# EAGLE library part STM32G0C1VET6 (library STM32G0C1VET6)
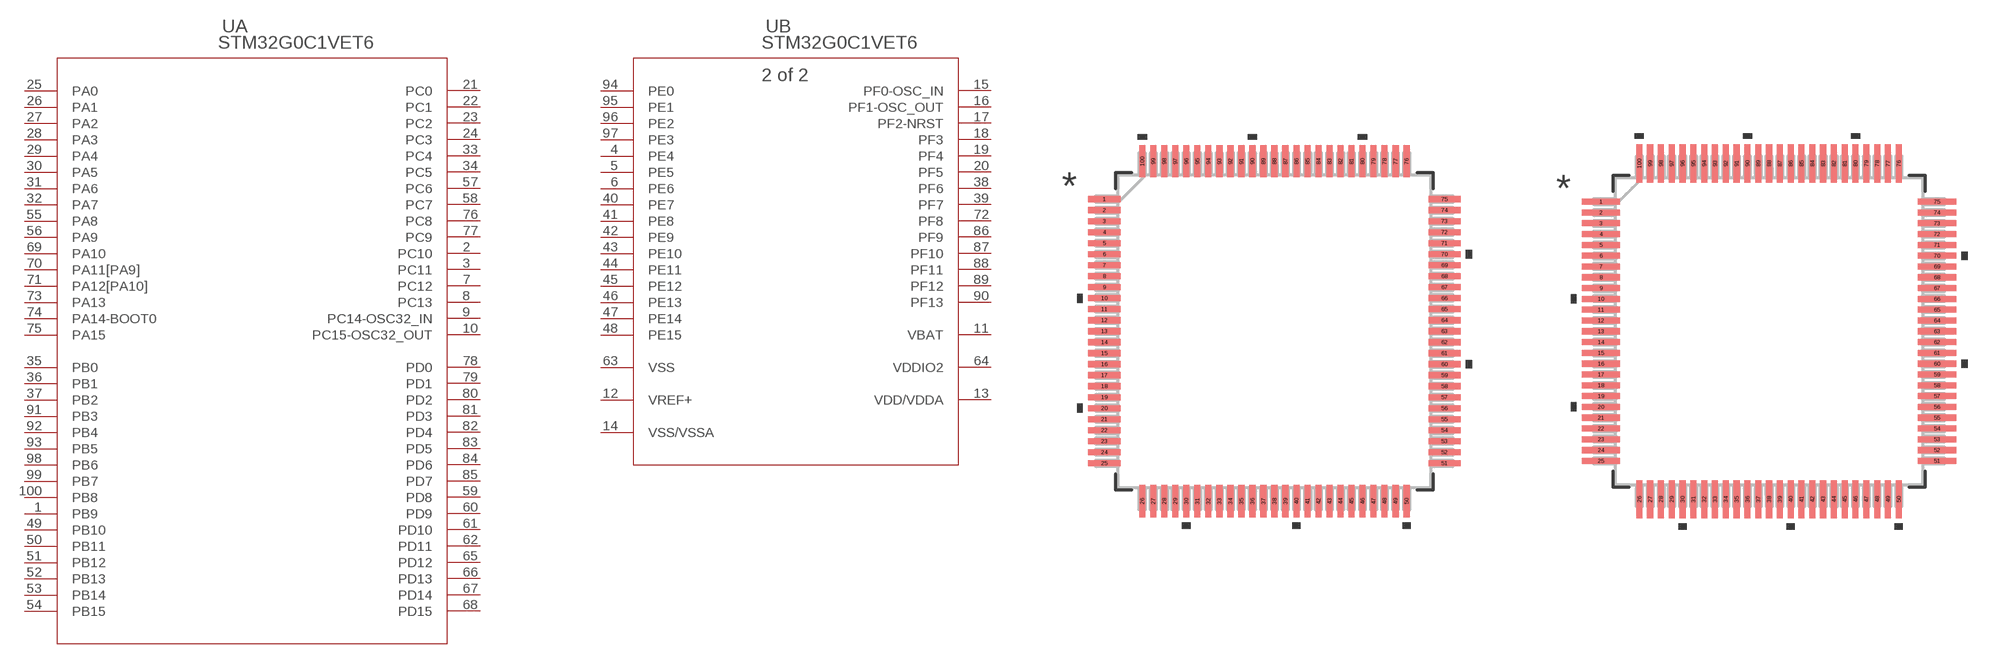
[diagram p0: symbol with the pads of LQFP-100_STM; footprints LQFP-100_STM, LQFP-100_STM-M]

Designator prefix U; gates A=STM32G0C1VET6 B=STM32G0C1VET6_1

## STM32G0C1VET6 (COPYRIGHT: Copyright (C) 2023 Ultra Librarian. All rights reserved.; MANUFACTURER_PART_NUMBER: STM32G0C1VET6; MFR_NAME: STMicroelectronics)  [LQFP-100_STM]
1  A:PB9
2  A:PC10
3  A:PC11
4  B:PE4
5  B:PE5
6  B:PE6
7  A:PC12
8  A:PC13
9  A:PC14-OSC32_IN
10  A:PC15-OSC32_OUT
11  B:VBAT  pwr
12  B:VREF+  pwr
13  B:VDD/VDDA  pwr
14  B:VSS/VSSA  pwr
15  B:PF0-OSC_IN
16  B:PF1-OSC_OUT
17  B:PF2-NRST
18  B:PF3
19  B:PF4
20  B:PF5
21  A:PC0
22  A:PC1
23  A:PC2
24  A:PC3
25  A:PA0
26  A:PA1
27  A:PA2
28  A:PA3
29  A:PA4
30  A:PA5
31  A:PA6
32  A:PA7
33  A:PC4
34  A:PC5
35  A:PB0
36  A:PB1
37  A:PB2
38  B:PF6
39  B:PF7
40  B:PE7
41  B:PE8
42  B:PE9
43  B:PE10
44  B:PE11
45  B:PE12
46  B:PE13
47  B:PE14
48  B:PE15
49  A:PB10
50  A:PB11
51  A:PB12
52  A:PB13
53  A:PB14
54  A:PB15
55  A:PA8
56  A:PA9
57  A:PC6
58  A:PC7
59  A:PD8
60  A:PD9
61  A:PD10
62  A:PD11
63  B:VSS  pwr
64  B:VDDIO2  pwr
65  A:PD12
66  A:PD13
67  A:PD14
68  A:PD15
69  A:PA10
70  A:PA11[PA9]
71  A:PA12[PA10]
72  B:PF8
73  A:PA13
74  A:PA14-BOOT0
75  A:PA15
76  A:PC8
77  A:PC9
78  A:PD0
79  A:PD1
80  A:PD2
81  A:PD3
82  A:PD4
83  A:PD5
84  A:PD6
85  A:PD7
86  B:PF9
87  B:PF10
88  B:PF11
89  B:PF12
90  B:PF13
91  A:PB3
92  A:PB4
93  A:PB5
94  B:PE0
95  B:PE1
96  B:PE2
97  B:PE3
98  A:PB6
99  A:PB7
100  A:PB8

## STM32G0C1VET6LQFP-100_STM-M (COPYRIGHT: Copyright (C) 2023 Ultra Librarian. All rights reserved.; MANUFACTURER_PART_NUMBER: STM32G0C1VET6; MFR_NAME: STMicroelectronics)  [LQFP-100_STM-M]
Pads as for LQFP-100_STM

## STM32G0C1VET6LQFP-100_STM-L (COPYRIGHT: Copyright (C) 2023 Ultra Librarian. All rights reserved.; MANUFACTURER_PART_NUMBER: STM32G0C1VET6; MFR_NAME: STMicroelectronics)  [LQFP-100_STM-L]
Pads as for LQFP-100_STM

## Footprint LQFP-100_STM (pad centres in mm)
smd 1.462 x 0.279: 1 -7.722,6; 2 -7.722,5.5; 3 -7.722,5; 4 -7.722,4.5; 5 -7.722,4; 6 -7.722,3.5; 7 -7.722,3; 8 -7.722,2.5; 9 -7.722,2; 10 -7.722,1.5; 11 -7.722,1; 12 -7.722,0.5; 13 -7.722,0; 14 -7.722,-0.5; 15 -7.722,-1; 16 -7.722,-1.5; 17 -7.722,-2; 18 -7.722,-2.5; 19 -7.722,-3; 20 -7.722,-3.5; 21 -7.722,-4; 22 -7.722,-4.5; 23 -7.722,-5; 24 -7.722,-5.5; 25 -7.722,-6; 51 7.722,-6; 52 7.722,-5.5; 53 7.722,-5; 54 7.722,-4.5; 55 7.722,-4; 56 7.722,-3.5; 57 7.722,-3; 58 7.722,-2.5; 59 7.722,-2; 60 7.722,-1.5; 61 7.722,-1; 62 7.722,-0.5; 63 7.722,0; 64 7.722,0.5; 65 7.722,1; 66 7.722,1.5; 67 7.722,2; 68 7.722,2.5; 69 7.722,3; 70 7.722,3.5; 71 7.722,4; 72 7.722,4.5; 73 7.722,5; 74 7.722,5.5; 75 7.722,6
smd 0.279 x 1.462: 26 -6,-7.722; 27 -5.5,-7.722; 28 -5,-7.722; 29 -4.5,-7.722; 30 -4,-7.722; 31 -3.5,-7.722; 32 -3,-7.722; 33 -2.5,-7.722; 34 -2,-7.722; 35 -1.5,-7.722; 36 -1,-7.722; 37 -0.5,-7.722; 38 0,-7.722; 39 0.5,-7.722; 40 1,-7.722; 41 1.5,-7.722; 42 2,-7.722; 43 2.5,-7.722; 44 3,-7.722; 45 3.5,-7.722; 46 4,-7.722; 47 4.5,-7.722; 48 5,-7.722; 49 5.5,-7.722; 50 6,-7.722; 76 6,7.722; 77 5.5,7.722; 78 5,7.722; 79 4.5,7.722; 80 4,7.722; 81 3.5,7.722; 82 3,7.722; 83 2.5,7.722; 84 2,7.722; 85 1.5,7.722; 86 1,7.722; 87 0.5,7.722; 88 0,7.722; 89 -0.5,7.722; 90 -1,7.722; 91 -1.5,7.722; 92 -2,7.722; 93 -2.5,7.722; 94 -3,7.722; 95 -3.5,7.722; 96 -4,7.722; 97 -4.5,7.722; 98 -5,7.722; 99 -5.5,7.722; 100 -6,7.722

## Footprint LQFP-100_STM-M (pad centres in mm)
smd 1.762 x 0.279: 1 -7.772,6; 2 -7.772,5.5; 3 -7.772,5; 4 -7.772,4.5; 5 -7.772,4; 6 -7.772,3.5; 7 -7.772,3; 8 -7.772,2.5; 9 -7.772,2; 10 -7.772,1.5; 11 -7.772,1; 12 -7.772,0.5; 13 -7.772,0; 14 -7.772,-0.5; 15 -7.772,-1; 16 -7.772,-1.5; 17 -7.772,-2; 18 -7.772,-2.5; 19 -7.772,-3; 20 -7.772,-3.5; 21 -7.772,-4; 22 -7.772,-4.5; 23 -7.772,-5; 24 -7.772,-5.5; 25 -7.772,-6; 51 7.772,-6; 52 7.772,-5.5; 53 7.772,-5; 54 7.772,-4.5; 55 7.772,-4; 56 7.772,-3.5; 57 7.772,-3; 58 7.772,-2.5; 59 7.772,-2; 60 7.772,-1.5; 61 7.772,-1; 62 7.772,-0.5; 63 7.772,0; 64 7.772,0.5; 65 7.772,1; 66 7.772,1.5; 67 7.772,2; 68 7.772,2.5; 69 7.772,3; 70 7.772,3.5; 71 7.772,4; 72 7.772,4.5; 73 7.772,5; 74 7.772,5.5; 75 7.772,6
smd 0.279 x 1.762: 26 -6,-7.772; 27 -5.5,-7.772; 28 -5,-7.772; 29 -4.5,-7.772; 30 -4,-7.772; 31 -3.5,-7.772; 32 -3,-7.772; 33 -2.5,-7.772; 34 -2,-7.772; 35 -1.5,-7.772; 36 -1,-7.772; 37 -0.5,-7.772; 38 0,-7.772; 39 0.5,-7.772; 40 1,-7.772; 41 1.5,-7.772; 42 2,-7.772; 43 2.5,-7.772; 44 3,-7.772; 45 3.5,-7.772; 46 4,-7.772; 47 4.5,-7.772; 48 5,-7.772; 49 5.5,-7.772; 50 6,-7.772; 76 6,7.772; 77 5.5,7.772; 78 5,7.772; 79 4.5,7.772; 80 4,7.772; 81 3.5,7.772; 82 3,7.772; 83 2.5,7.772; 84 2,7.772; 85 1.5,7.772; 86 1,7.772; 87 0.5,7.772; 88 0,7.772; 89 -0.5,7.772; 90 -1,7.772; 91 -1.5,7.772; 92 -2,7.772; 93 -2.5,7.772; 94 -3,7.772; 95 -3.5,7.772; 96 -4,7.772; 97 -4.5,7.772; 98 -5,7.772; 99 -5.5,7.772; 100 -6,7.772

## Footprint LQFP-100_STM-L (pad centres in mm)
smd 1.162 x 0.229: 1 -7.672,6; 2 -7.672,5.5; 3 -7.672,5; 4 -7.672,4.5; 5 -7.672,4; 6 -7.672,3.5; 7 -7.672,3; 8 -7.672,2.5; 9 -7.672,2; 10 -7.672,1.5; 11 -7.672,1; 12 -7.672,0.5; 13 -7.672,0; 14 -7.672,-0.5; 15 -7.672,-1; 16 -7.672,-1.5; 17 -7.672,-2; 18 -7.672,-2.5; 19 -7.672,-3; 20 -7.672,-3.5; 21 -7.672,-4; 22 -7.672,-4.5; 23 -7.672,-5; 24 -7.672,-5.5; 25 -7.672,-6; 51 7.672,-6; 52 7.672,-5.5; 53 7.672,-5; 54 7.672,-4.5; 55 7.672,-4; 56 7.672,-3.5; 57 7.672,-3; 58 7.672,-2.5; 59 7.672,-2; 60 7.672,-1.5; 61 7.672,-1; 62 7.672,-0.5; 63 7.672,0; 64 7.672,0.5; 65 7.672,1; 66 7.672,1.5; 67 7.672,2; 68 7.672,2.5; 69 7.672,3; 70 7.672,3.5; 71 7.672,4; 72 7.672,4.5; 73 7.672,5; 74 7.672,5.5; 75 7.672,6
smd 0.229 x 1.162: 26 -6,-7.672; 27 -5.5,-7.672; 28 -5,-7.672; 29 -4.5,-7.672; 30 -4,-7.672; 31 -3.5,-7.672; 32 -3,-7.672; 33 -2.5,-7.672; 34 -2,-7.672; 35 -1.5,-7.672; 36 -1,-7.672; 37 -0.5,-7.672; 38 0,-7.672; 39 0.5,-7.672; 40 1,-7.672; 41 1.5,-7.672; 42 2,-7.672; 43 2.5,-7.672; 44 3,-7.672; 45 3.5,-7.672; 46 4,-7.672; 47 4.5,-7.672; 48 5,-7.672; 49 5.5,-7.672; 50 6,-7.672; 76 6,7.672; 77 5.5,7.672; 78 5,7.672; 79 4.5,7.672; 80 4,7.672; 81 3.5,7.672; 82 3,7.672; 83 2.5,7.672; 84 2,7.672; 85 1.5,7.672; 86 1,7.672; 87 0.5,7.672; 88 0,7.672; 89 -0.5,7.672; 90 -1,7.672; 91 -1.5,7.672; 92 -2,7.672; 93 -2.5,7.672; 94 -3,7.672; 95 -3.5,7.672; 96 -4,7.672; 97 -4.5,7.672; 98 -5,7.672; 99 -5.5,7.672; 100 -6,7.672